# Altium schematic symbol library CL21A475KBQNNNE.SchLib: 1 symbol
Pins are listed as number, name and electrical type; pins without a type are passive.

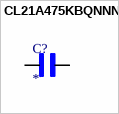
[diagram p0: symbol CL21A475KBQNNNE]

## CL21A475KBQNNNE
designator C?
Cap Ceramic 4.7uF 50V X5R 10% SMD 0805 85Â°C Embossed Plastic T/R; MF: {'manufacturer': u'Samsung Electro-Mechanics'}; MP: CL21A475KBQNNNE; Package: None; Price: None; Value: *; Availability: Unavailable
footprint CAPC2012X140N
pins: 1, 2